# Altium schematic symbol library 2020-12-15_20-34-36.SchLib: 2 symbols
Pins are listed as number, name and electrical type; pins without a type are passive.

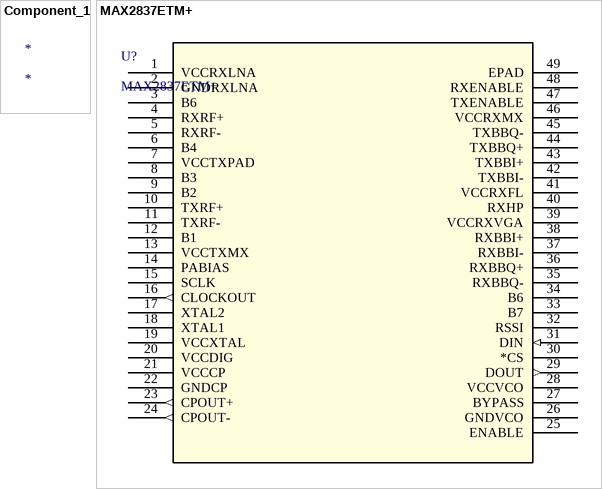
[diagram p0: symbols Component_1 to MAX2837ETM+]

## Component_1
designator *

## MAX2837ETM+
designator U?
No Description Available; Vendor: Maxim Integrated Products; Built_By: EMA_UL_Team; SourceLibrary: Maxim_2014-05-21; Manufacturer_Part_Number: MAX2837ETM+; Copyright: Copyright (C) 2018 Accelerated Designs. All rights reserved; RefDes: RefDes; Type: DEV
footprint 21-0141I_T4866-2_MXM
pins: 1 VCCRXLNA (power), 2 GNDRXLNA (power), 3 B6, 4 RXRF+, 5 RXRF-, 6 B4, 7 VCCTXPAD (power), 8 B3, 9 B2, 10 TXRF+, 11 TXRF-, 12 B1, 13 VCCTXMX (power), 14 PABIAS, 15 SCLK, 16 CLOCKOUT (out), 17 XTAL2, 18 XTAL1, 19 VCCXTAL (power), 20 VCCDIG (power), 21 VCCCP (power), 22 GNDCP (power), 23 CPOUT+ (out), 24 CPOUT- (out), 25 ENABLE, 26 GNDVCO (power), 27 BYPASS, 28 VCCVCO (power), 29 DOUT (out), 30 *CS, 31 DIN (in), 32 RSSI, 33 B7, 34 B6, 35 RXBBQ-, 36 RXBBQ+, 37 RXBBI-, 38 RXBBI+, 39 VCCRXVGA (power), 40 RXHP, 41 VCCRXFL (power), 42 TXBBI-, 43 TXBBI+, 44 TXBBQ+, 45 TXBBQ-, 46 VCCRXMX (power), 47 TXENABLE, 48 RXENABLE, 49 EPAD